# Altium footprint library Motors.PcbLib: 1 footprints
Each footprint in its own frame and in the unit in brackets; x right, y up, seen from the top. Pads: shape width x height; smd on the part's side, far side on the other; paste and mask are expansions set on the pad; w line width, h text height; cw(c..) or ccw(c..) is an arc to the next point about the centre after c.
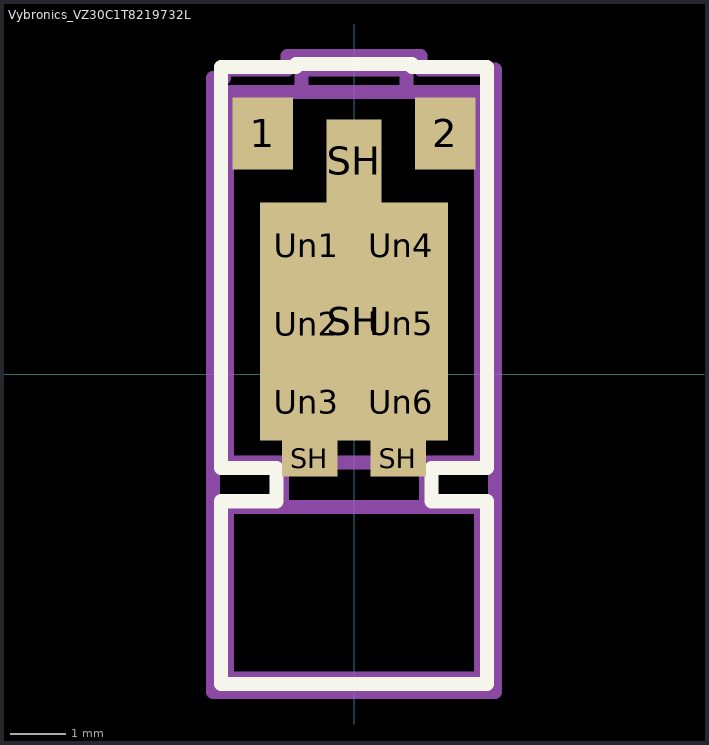
[diagram p0: the footprint, top view; thin cyan lines are the x and y axes]

## Vybronics_VZ30C1T8219732L [mm]
pads (12):
  rect 1.1x1.3 smd: 1(-1.65,4.35) 2(1.65,4.35)
  rect 1x0.65 smd: SH(-0.8,-1.525) SH(0.8,-1.525)
  rect 3.4x4.3 smd: SH(0,0.95)
  rect 1x1.5 smd: SH(0,3.85)
  rect 1.4x1.07 on Top Paste: Un1(-0.85,2.315) Un2(-0.85,0.905) Un3(-0.85,-0.505) Un4(0.85,2.315) Un5(0.85,0.905) Un6(0.85,-0.505)
F.SilkS:
  lines w0.254: -2.4,-5.6 2.4,-5.6 2.4,-2.3 1.4,-2.3 1.4,-1.7 2.4,-1.7 2.4,5.2 2.4,5.55 1.05,5.55 1.05,5.6 -1.05,5.6 -1.05,5.55 -2.4,5.55 -2.4,5.2 -2.4,-1.7 -1.4,-1.7 -1.4,-2.3 -2.4,-2.3 -2.4,-5.6
Top Component Center:
  lines w0.127: -0.127,0 0.127,0 ; 0,-0.127 0,0.127
Top Assembly:
  lines w0.254: -1.3,-2.4 -1.3,-1.6 ; -0.95,5.1 -0.95,5.5 0.95,5.5 0.95,5.1 ; 1.3,-2.4 1.3,-1.6 ; -2.3,-5.5 2.3,-5.5 2.3,-2.4 -2.3,-2.4 -2.3,-5.5 ; -2.3,-1.6 2.3,-1.6 2.3,5.1 -2.3,5.1 -2.3,-1.6
  text "'.Designator'" at -4.047,-0.84 h1
Top Courtyard:
  lines w0.254: -2.55,-5.75 2.55,-5.75 2.55,5.35 2.55,5.5 1.2,5.5 1.2,5.75 -1.2,5.75 -1.2,5.5 -2.35,5.5 -2.35,5.35 -2.55,5.35 -2.55,-5.75
Top Designator:
  text ".Designator" at -7.768,-0.508 h1.52